# Altium footprint library Tiky_IPS_CT.PcbLib: 4 footprints
Each footprint in its own frame and in the unit in brackets; x right, y up, seen from the top. Pads: shape width x height; smd on the part's side, far side on the other; paste and mask are expansions set on the pad; w line width, h text height; cw(c..) or ccw(c..) is an arc to the next point about the centre after c.
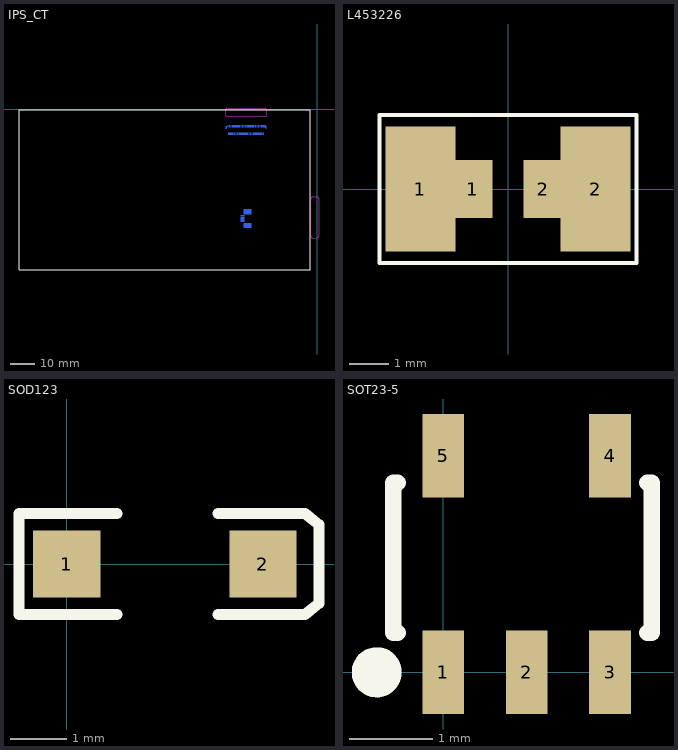
[diagram p0: the footprints below, top view; thin cyan lines are the x and y axes]

## IPS_CT [mm]
pads (61):
  rect 0.4x1 smd far side: 0(-37.7,-7.5) 0(-21.3,-7.4)
  rect 0.3x0.8 smd far side: 1(-37,-7.1) 2(-36.7,-10.1) 3(-36.4,-7.1) 4(-36.1,-10.1) 5(-35.8,-7.1) 6(-35.5,-10.1) 7(-35.2,-7.1) 8(-34.9,-10.1) 9(-34.6,-7.1) 10(-34.3,-10.1) 11(-34,-7.1) 12(-33.7,-10.1) 13(-33.4,-7.1) 14(-33.1,-10.1) 15(-32.8,-7.1) 16(-32.5,-10.1) 17(-32.2,-7.1) 18(-31.9,-10.1) 19(-31.6,-7.1) 20(-31.3,-10.1) 21(-31,-7.1) 22(-30.7,-10.1) 23(-30.4,-7.1) 24(-30.1,-10.1) 25(-29.8,-7.1) 26(-29.5,-10.1) 27(-29.2,-7.1) 28(-28.9,-10.1) 29(-28.6,-7.1) 30(-28.3,-10.1) 31(-28,-7.1) 32(-27.7,-10.1) 33(-27.4,-7.1) 34(-27.1,-10.1) 35(-26.8,-7.1) 36(-26.5,-10.1) 37(-26.2,-7.1) 38(-25.9,-10.1) 39(-25.6,-7.1) 40(-25.3,-10.1) 41(-25,-7.1) 42(-24.7,-10.1) 43(-24.4,-7.1) 44(-24.1,-10.1) 45(-23.8,-7.1) 46(-23.5,-10.1) 47(-23.2,-7.1) 48(-22.9,-10.1) 49(-22.6,-7.1) 50(-22.3,-10.1) 51(-22,-7.1)
  rect 3x2 smd far side: 52(-28.9,-42.4)
  rect 3x2 smd far side paste+0: 53(-28.9,-48.1)
  rect 1.5x0.25 smd far side: 54(-31,-44) 55(-31,-44.5) 56(-31,-45) 57(-31,-45.5) 58(-31,-46) 59(-31,-46.5)
Top Overlay:
  lines w0.15: -123.5,-66.4 -3,-66.4 -3,-0.2 -123.5,-0.2 -123.5,-66.4
  lines w0.2: -123.4,-66.4 -3,-66.4 -3,-0.2 -123.4,-0.2 -123.4,-66.4
Bottom Overlay:
  lines w0.2: -30.7,-47 -30.7,-49.4 -26.2,-49.4 -26.2,-41.1 -30.7,-41.1 -30.7,-43.5
Keep-Out Layer:
  lines w0.01: -38,-1.785 -38,-0.055 cw(c-37.5,-0.055) -37.5,0.445 -21.6,0.445 cw(c-21.6,-0.155) -21,-0.155 -21,-1.785 ; -38,-1.17 -38,-2.4 ccw(c-37.5,-2.4) -37.5,-2.9 -21.6,-2.9 ccw(c-21.6,-2.3) -21,-2.3 -21,-1.17 ; -2.8,-52.3 ccw(c-1.8,-52.3) -1.8,-53.3 -0.359,-53.3 ccw(c-0.359,-52.3) 0.641,-52.3 0.641,-37.2 ccw(c-0.359,-37.2) -0.359,-36.2 -1.8,-36.2 ccw(c-1.8,-37.2) -2.8,-37.2 -2.8,-52.3

## L453226 [mm]
pads (4):
  rect 1.8x3.2 smd: 1(-2.25,0) 2(2.25,0)
  rect 1x1.5 smd: 1(-0.9,0) 2(0.9,0)
Top Overlay:
  lines w0.1: -3.3,-1.9 -3.3,1.9 3.3,1.9 3.3,-1.9 -3.3,-1.9

## SOD123 [mm]
pads (2):
  rect 1.2x1.2 smd: 1(0,0) 2(3.5,0)
Top Overlay:
  lines w0.2: 0.9,-0.9 -0.85,-0.9 -0.85,0.9 0.9,0.9 ; 2.7,-0.9 4.25,-0.9 4.5,-0.7 4.5,0.7 4.25,0.9 2.7,0.9
3D body "SOD123.step": height 1.27, standoff 0, extent -0.05,-0.8 3.65,0.8

## SOT23-5 [mm]
height 4.5
pads (5):
  rect 0.5x1 smd: 1(0,0) 2(1,0) 3(2,0) 4(2,2.6) 5(0,2.6)
Top Overlay:
  circle w0.3: c-0.8,0 r0.15
  lines w0.2: -0.55,0.475 -0.6,0.475 -0.6,2.275 -0.55,2.275 ; 2.45,0.475 2.5,0.475 2.5,2.275 2.45,2.275
3D body "User Library-SOT23-5.STEP": height 1.09, standoff -0.01, extent -0.459,-0.133 2.44,2.667